# EAGLE library part ACJS-MHR (library connectors)
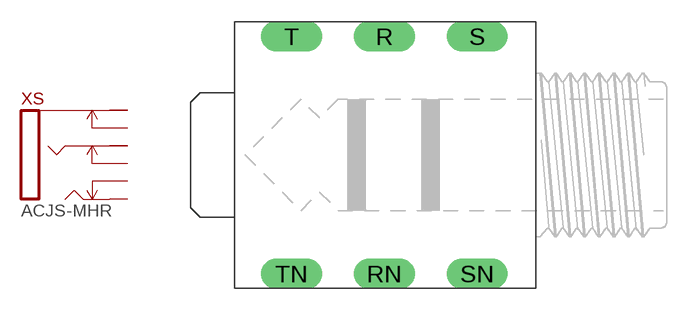
[diagram p1: symbol with the pads of NMJ6HC-S; footprint NMJ6HC-S]

Designator prefix XS

## ACJS-MHR (MOUSER: 523-ACJS-MHR)  [NMJ6HC-S]
R  R  pas
RN  RN  pas
S  S  pas
SN  SN  pas
T  T  pas
TN  TN  pas

## Footprint NMJ6HC-S (pad centres in mm)
drill 1.4 long: R -10.35,8.115; RN -10.35,-8.115; S -4,8.115; SN -4,-8.115; T -16.7,8.115; TN -16.7,-8.115